# EAGLE library part CM1232 (library 65XXX)
CM1232 CMOS Microprocessor Monitor
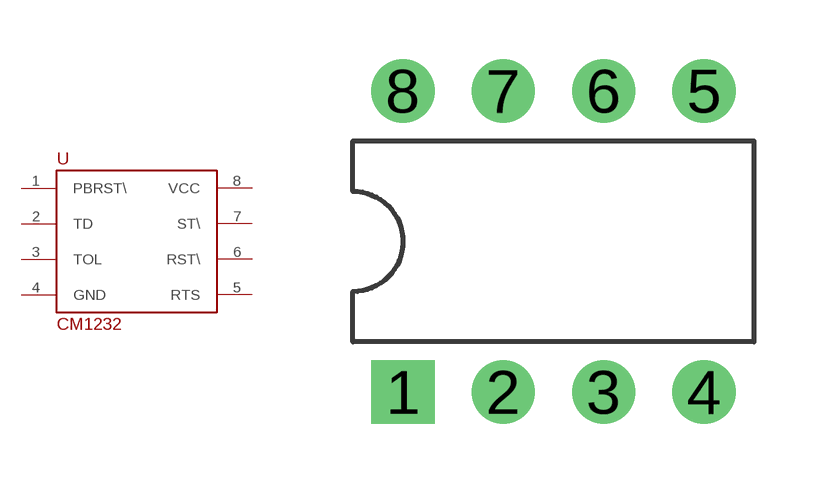
[diagram p5: symbol with the pads of DIP-8; footprint DIP-8]

Designator prefix U

## CM1232  [DIP-8]
1  PBRST\  in
2  TD  in
3  TOL  in
4  GND  sup
5  RTS  out
6  RST\  out
7  ST\  in
8  VCC  sup

## Footprint DIP-8 (pad centres in mm)
8-Pin DIP, 0.3" Wide
drill 0.889 pad 1.6 square: 1 -2.54,-2.54
drill 0.889 pad 1.6 round: 2 0,-2.54; 3 2.54,-2.54; 4 5.08,-2.54; 5 5.08,5.08; 6 2.54,5.08; 7 0,5.08; 8 -2.54,5.08